# Altium footprint library Smart_Gateway_Rev1.0_2.PcbLib: 45 footprints (part 3 of 3)
Each footprint in its own frame and in the unit in brackets; x right, y up, seen from the top. Pads: shape width x height; smd on the part's side, far side on the other; paste and mask are expansions set on the pad; w line width, h text height; cw(c..) or ccw(c..) is an arc to the next point about the centre after c.
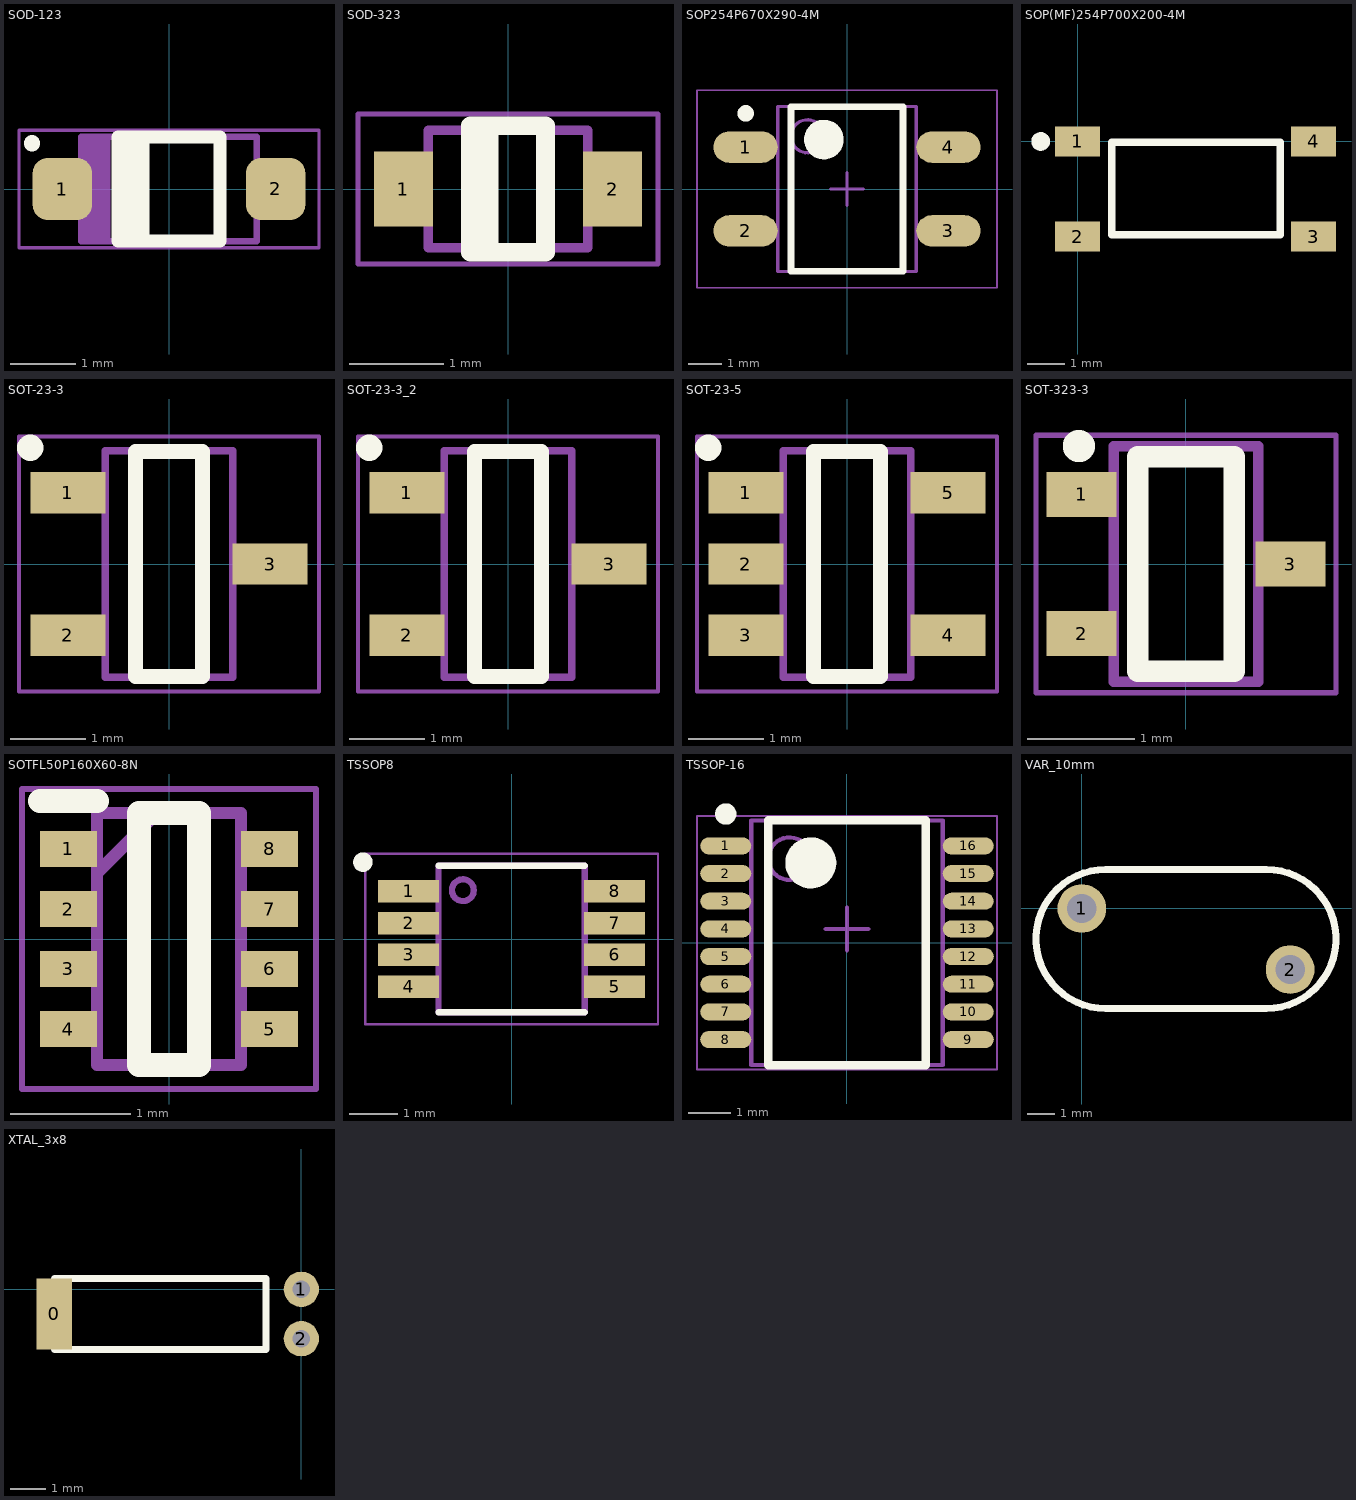
[diagram p2: the footprints below, top view; thin cyan lines are the x and y axes]

## SOD-123 [mm] "SOD, 2-Leads, Body 2.69x1.6mm"
height 1.35
pads (2):
  rrect50% 0.91x0.95 smd: 1(-1.635,0) 2(1.635,0)
Top Overlay:
  circle w0.25: c-2.1,0.7 r0
  rectangle: -0.78,-0.8 -0.3,0.8
  lines w0.2: -0.78,-0.8 0.78,-0.8 0.78,0.8 -0.78,0.8 -0.78,-0.8
Mechanical 13:
  rectangle: -1.345,-0.8 -0.9,0.8
  lines w0.1: -1.345,-0.8 1.345,-0.8 1.345,0.8 -1.345,0.8 -1.345,-0.8
Mechanical 15:
  lines w0.05: -2.3,-0.9 2.3,-0.9 2.3,0.9 -2.3,0.9 -2.3,-0.9
  text ".Designator" at -2,-0.4 h1.5
3D body "CircuitWorks-SOD123.step": height 1.27, standoff 0, extent -1.85,-0.8 1.85,0.8

## SOD-323 [mm] "SOD, 2-Leads, Body 1.7x1.25mm"
height 1.062
pads (2):
  rect 0.63x0.8 smd: 1(-1.115,0) 2(1.115,0)
Top Overlay:
  rectangle: -0.4,-0.675 -0.1,0.675
  lines w0.2: -0.4,-0.675 -0.4,0.675 0.4,0.675 0.4,-0.675 -0.4,-0.675
Mechanical 13:
  lines w0.1: -0.85,-0.625 -0.85,0.625 0.85,0.625 0.85,-0.625 -0.85,-0.625
Mechanical 15:
  lines w0.05: -1.6,-0.8 -1.6,0.8 1.6,0.8 1.6,-0.8 -1.6,-0.8
  text ".Designator" at -1.4,-0.3 h1
3D body "User Library-SOD-323.step": height 1.1, standoff 0, extent -1.3,-0.675 1.3,0.675

## SOP254P670X290-4M [mm]
pads (4):
  oval 1.95x0.95 smd: 1(-3.075,1.27) 2(-3.075,-1.27) 3(3.075,-1.27) 4(3.075,1.27)
Top Overlay:
  circle w0.25: c-3.075,2.295 r0.125
  circle w0.6: c-0.7,1.5 r0.3
  lines w0.2: -1.7,-2.5 -1.7,2.5 1.7,2.5 1.7,-2.5 -1.7,-2.5
Top Assembly:
  circle w0.1: c-1.2,1.6 r0.5
  lines w0.1: -2.1,-2.5 -2.1,2.5 2.1,2.5 2.1,-2.5 -2.1,-2.5
Mechanical 15:
  lines w0.05: -4.55,-3 -4.55,3 4.55,3 4.55,-3 -4.55,-3
  lines w0.1: -0.5,0 0.5,0 ; 0,-0.5 0,0.5
3D body "SOP254P670X290-4M.step": height 2.9, standoff 0, extent -3.35,-2.5 3.35,2.5

## SOP(MF)254P700X200-4M [mm]
height 1.8
pads (4):
  rect 1.2x0.8 smd: 1(0,0) 2(0,-2.54) 3(6.3,-2.54) 4(6.3,0)
Top Overlay:
  circle w0.25: c-0.989,0 r0.125
  lines w0.2: 0.914,-2.489 0.914,-0.025 5.41,-0.025 5.41,-2.489 0.914,-2.489
3D body "User Library-4-SOP.STEP": height 2.1, standoff 0, extent -0.241,-3.39 6.559,0.91

## SOT-23-3 [mm] "SOT23, 3-Leads"
height 1.45
pads (3):
  rect 1x0.55 smd: 1(-1.35,0.95) 2(-1.35,-0.95) 3(1.35,0)
Top Overlay:
  circle w0.25: c-1.85,1.55 r0.05
  lines w0.2: -0.45,-1.5 -0.45,1.5 0.45,1.5 0.45,-1.5 -0.45,-1.5
Mechanical 13:
  lines w0.1: -0.85,-1.51 0.85,-1.51 0.85,1.51 -0.85,1.51 -0.85,-1.51
Mechanical 15:
  lines w0.05: -2,-1.7 2,-1.7 2,1.7 -2,1.7 -2,-1.7
  text ".Designator" at -1.9,0.5 h1.5
3D body "CircuitWorks-SOT-23.step": height 1.1, standoff 0, extent -1.25,-1.5 1.25,1.5

## SOT-23-3_2 [mm]
pads (3):
  rect 1x0.55 smd: 1(-1.35,0.95) 2(-1.35,-0.95) 3(1.35,0)
Top Overlay:
  circle w0.25: c-1.85,1.55 r0.05
  lines w0.2: -0.45,-1.5 0.45,-1.5 0.45,1.5 -0.45,1.5 -0.45,-1.5
Mechanical 13:
  lines w0.1: -0.85,-1.51 -0.85,1.51 0.85,1.51 0.85,-1.51 -0.85,-1.51
Mechanical 15:
  lines w0.05: -2,-1.7 -2,1.7 2,1.7 2,-1.7 -2,-1.7
  text ".Designator" at -1.9,0.5 h1.5
3D body "CircuitWorks-SOT-23.step": height 1.1, standoff 0, extent -1.25,-1.5 1.25,1.5

## SOT-23-5 [mm] "SOT23, 5-Leads, Body 2.92x2.80mm, Pitch 0.95mm, IPC Medium Density"
height 1.45
pads (5):
  rect 1x0.55 smd: 1(-1.35,0.95) 2(-1.35,0) 3(-1.35,-0.95) 4(1.35,-0.95) 5(1.35,0.95)
Top Overlay:
  circle w0.25: c-1.85,1.55 r0.05
  lines w0.2: -0.45,-1.5 -0.45,1.5 0.45,1.5 0.45,-1.5 -0.45,-1.5
Mechanical 13:
  lines w0.1: -0.85,-1.51 0.85,-1.51 0.85,1.51 -0.85,1.51 -0.85,-1.51
Mechanical 15:
  lines w0.05: -2,-1.7 2,-1.7 2,1.7 -2,1.7 -2,-1.7
  text ".Designator" at -1.9,0.5 h1.5
3D body "CircuitWorks-SOT-23-5.step": height 1.1, standoff 0, extent -1.25,-1.5 1.25,1.5

## SOT-323-3 [mm]
height 1.45
pads (3):
  rect 0.65x0.42 smd mask+0.076: 1(-0.975,0.65) 2(-0.975,-0.65) 3(0.975,0)
Top Overlay:
  circle w0.25: c-1,1.1 r0.025
  lines w0.2: -0.45,-1 -0.45,1 0.45,1 0.45,-1 -0.45,-1
Mechanical 13:
  lines w0.1: -0.675,-1.1 0.675,-1.1 0.675,1.1 -0.675,1.1 -0.675,-1.1
Mechanical 15:
  lines w0.05: -1.4,-1.2 1.4,-1.2 1.4,1.2 -1.4,1.2 -1.4,-1.2
  text ".Designator" at -1.3,-0.2 h0.8
3D body "User Library-sc70-3.step": height 1, standoff 0, extent -1.15,-1.05 1.15,1.05

## SOTFL50P160X60-8N [mm]
pads (8):
  rect 0.475x0.3 smd: 1(-0.838,0.75) 2(-0.838,0.25) 3(-0.838,-0.25) 4(-0.838,-0.75) 5(0.838,-0.75) 6(0.838,-0.25) 7(0.838,0.25) 8(0.838,0.75)
Top Overlay:
  lines w0.2: -1.075,1.15 -0.6,1.15 ; -0.25,-1.05 -0.25,1.05 0.25,1.05 0.25,-1.05 -0.25,-1.05
Mechanical 13:
  lines w0.1: -0.6,0.55 -0.1,1.05 ; -0.6,-1.05 -0.6,1.05 0.6,1.05 0.6,-1.05 -0.6,-1.05
Mechanical 15:
  lines w0.05: -1.225,-1.25 -1.225,1.25 1.225,1.25 1.225,-1.25 -1.225,-1.25
3D body "TPS2117DRLR.stp": height 0.6, standoff 0, extent -0.8,-1.05 0.8,1.05

## TSSOP8 [mm]
pads (8):
  rect 1.25x0.46 smd: 1(-2.11,0.975) 2(-2.11,0.325) 3(-2.11,-0.325) 4(-2.11,-0.975) 5(2.11,-0.975) 6(2.11,-0.325) 7(2.11,0.325) 8(2.11,0.975)
Top Overlay:
  circle w0.2: c-3.05,1.575 r0.1
  lines w0.127: -1.5,-1.5 1.5,-1.5 ; -1.5,1.5 1.5,1.5
Mechanical 13:
  circle w0.127: c-1,1 r0.224
  lines w0.127: -1.5,-1.5 1.5,-1.5 1.5,1.5 -1.5,1.5 -1.5,-1.5
Mechanical 15:
  lines w0.05: -3,-1.75 3,-1.75 3,1.75 -3,1.75 -3,-1.75
3D body "User Library-TSSOP8-1.step": height 1.1, standoff 0, extent -2.101,-1.525 1.999,1.575

## TSSOP-16 [mm] "TSOP, 14-Leads, Body 5.00x4.40mm, Pitch 0.65mm, IPC High Density"
height 1.2
pads (16):
  oval 1.2x0.4 smd: 1(-2.85,2.275) 2(-2.85,1.625) 3(-2.85,0.975) 4(-2.85,0.325) 5(-2.85,-0.325) 6(-2.85,-0.975) 7(-2.85,-1.625) 8(-2.85,-2.275) 9(2.85,-2.275) 10(2.85,-1.625) 11(2.85,-0.975) 12(2.85,-0.325) 13(2.85,0.325) 14(2.85,0.975) 15(2.85,1.625) 16(2.85,2.275)
Top Overlay:
  circle w0.25: c-2.85,3.025 r0.125
  circle w0.6: c-0.85,1.875 r0.3
  lines w0.2: 1.85,-2.875 -1.85,-2.875 -1.85,2.875 1.85,2.875 1.85,-2.85
Mechanical 13:
  circle w0.1: c-1.35,1.975 r0.5
  lines w0.1: 2.25,-2.875 -2.25,-2.875 -2.25,2.875 2.25,2.875 2.25,-2.85
Mechanical 15:
  lines w0.05: -3.525,-2.975 3.525,-2.975 3.525,2.975 -3.525,2.975 -3.525,-2.95
  lines w0.1: -0.5,0.325 0.5,0.325 ; 0,-0.175 0,0.825
3D body "User Library-TSSOP-16-1.step": height 1.1, standoff 0, extent -3.2,-2.5 3.2,2.5

## VAR_10mm [mm] "Varistor"
height 13
pads (2):
  round 1.75 hole 1.05: 1(0,0) 2(7.5,-2.2)
Top Overlay:
  lines w0.254: 0.85,-3.6 cw(c0.85,-1.1) 0.85,1.4 6.65,1.4 cw(c6.65,-1.1) 6.65,-3.6 0.85,-3.6
3D body "User Library-S10K275.STEP": height 2.5, standoff -13, extent -2.25,-2.991 9.75,0.81

## XTAL_3x8 [mm]
pads (3):
  rect 1x2 smd: 0(-7,-0.7)
  round 1 hole 0.5: 1(0,0) 2(0,-1.4)
Top Overlay:
  lines w0.2: -7,-1.7 -1,-1.7 -1,0.3 -7,0.3 -7,-1.7
3D body "AB26TRB.STEP": height 2.22, standoff 0, extent -7.1,-2.095 1.9,0.745